# EAGLE library part DAC6311 (library msp430_board)
Custom DAC
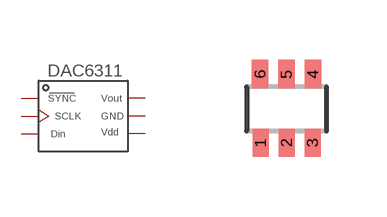
[diagram p2: symbol with the pads of SC70-6; footprint SC70-6]

Designator prefix -

## DAC6311  [SC70-6]
1  P$1
2  P$2
3  P$3
4  P$4
5  P$5
6  P$6

## Footprint SC70-6 (pad centres in mm)
smd 0.4 x 0.7: 1 -0.65,-0.85; 2 0,-0.85; 3 0.65,-0.85
smd 0.406 x 0.711: 4 0.66,0.864; 5 0,0.864; 6 -0.66,0.864